# Altium footprint library SamacSys.PcbLib: 20 footprints (part 1 of 2)
Each footprint in its own frame and in the unit in brackets; x right, y up, seen from the top. Pads: shape width x height; smd on the part's side, far side on the other; paste and mask are expansions set on the pad; w line width, h text height; cw(c..) or ccw(c..) is an arc to the next point about the centre after c.
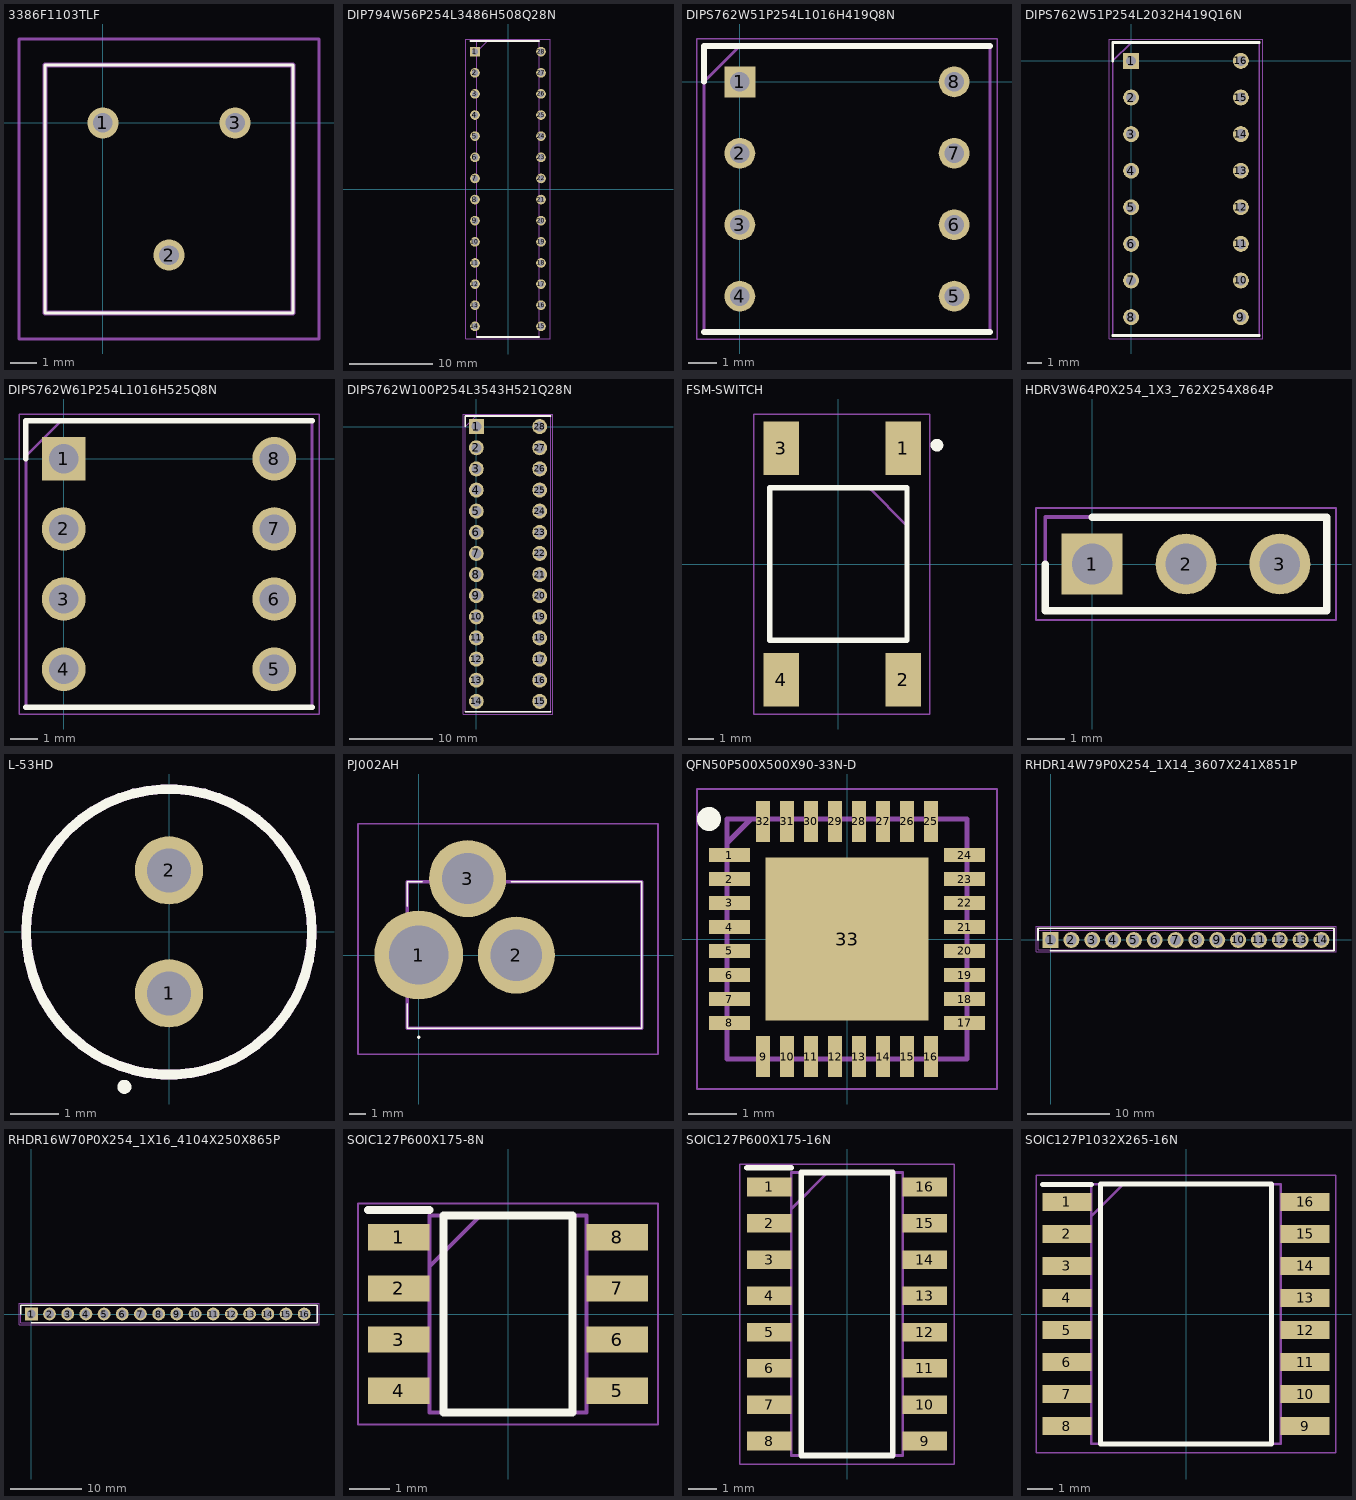
[diagram p0: the footprints below, top view; thin cyan lines are the x and y axes]

## 3386F1103TLF [mm]
pads (3):
  round 1.2 hole 0.75: 1(0,0) 2(2.54,-5.08) 3(5.08,0)
Top Overlay:
  lines w0.1: -2.225,-7.305 7.305,-7.305 7.305,2.225 -2.225,2.225 -2.225,-7.305
Mechanical 13:
  lines w0.2: -2.225,-7.305 7.305,-7.305 7.305,2.225 -2.225,2.225 -2.225,-7.305
Mechanical 15:
  lines w0.1: -3.225,-8.305 8.305,-8.305 8.305,3.225 -3.225,3.225 -3.225,-8.305
3D body "3386F-1-103TLF.stp": height 4.93, standoff -5, extent -2.225,-7.305 7.305,2.225

## DIP794W56P254L3486H508Q28N [mm]
pads (28):
  rect 1.159x1.159 hole 0.759: 1(-3.969,16.51)
  round 1.159 hole 0.759: 2(-3.969,13.97) 3(-3.969,11.43) 4(-3.969,8.89) 5(-3.969,6.35) 6(-3.969,3.81) 7(-3.969,1.27) 8(-3.969,-1.27) 9(-3.969,-3.81) 10(-3.969,-6.35) 11(-3.969,-8.89) 12(-3.969,-11.43) 13(-3.969,-13.97) 14(-3.969,-16.51) 15(3.969,-16.51) 16(3.969,-13.97) 17(3.969,-11.43) 18(3.969,-8.89) 19(3.969,-6.35) 20(3.969,-3.81) 21(3.969,-1.27) 22(3.969,1.27) 23(3.969,3.81) 24(3.969,6.35) 25(3.969,8.89) 26(3.969,11.43) 27(3.969,13.97) 28(3.969,16.51)
Top Overlay:
  lines w0.2: -4.548,17.78 3.746,17.78 ; -3.746,-17.78 3.746,-17.78
Mechanical 13:
  lines w0.1: -3.746,16.51 -2.476,17.78 ; -3.746,-17.78 -3.746,17.78 3.746,17.78 3.746,-17.78 -3.746,-17.78
Mechanical 15:
  lines w0.05: -5.084,-18.03 -5.084,18.03 5.084,18.03 5.084,-18.03 -5.084,-18.03
3D body "PIC16F1518-I_SP.stp": height 5.08, standoff -3.5, extent -4.109,-17.431 4.109,17.431

## DIPS762W51P254L1016H419Q8N [mm]
pads (8):
  rect 1.1x1.1 hole 0.7: 1(0,0)
  round 1.1 hole 0.7: 2(0,-2.54) 3(0,-5.08) 4(0,-7.62) 5(7.62,-7.62) 6(7.62,-5.08) 7(7.62,-2.54) 8(7.62,0)
Top Overlay:
  lines w0.2: -1.27,-8.89 8.89,-8.89 ; -1.27,0 -1.27,1.27 8.89,1.27
Mechanical 13:
  lines w0.1: -1.27,0 0,1.27 ; -1.27,-8.89 8.89,-8.89 8.89,1.27 -1.27,1.27 -1.27,-8.89
Mechanical 15:
  lines w0.05: -1.52,-9.14 9.14,-9.14 9.14,1.52 -1.52,1.52 -1.52,-9.14

## DIPS762W51P254L2032H419Q16N [mm]
pads (16):
  rect 1.1x1.1 hole 0.7: 1(0,0)
  round 1.1 hole 0.7: 2(0,-2.54) 3(0,-5.08) 4(0,-7.62) 5(0,-10.16) 6(0,-12.7) 7(0,-15.24) 8(0,-17.78) 9(7.62,-17.78) 10(7.62,-15.24) 11(7.62,-12.7) 12(7.62,-10.16) 13(7.62,-7.62) 14(7.62,-5.08) 15(7.62,-2.54) 16(7.62,0)
Top Overlay:
  lines w0.2: -1.27,-19.05 8.89,-19.05 ; -1.27,0 -1.27,1.27 8.89,1.27
Mechanical 13:
  lines w0.1: -1.27,0 0,1.27 ; -1.27,-19.05 -1.27,1.27 8.89,1.27 8.89,-19.05 -1.27,-19.05
Mechanical 15:
  lines w0.05: -1.52,-19.3 -1.52,1.52 9.14,1.52 9.14,-19.3 -1.52,-19.3

## DIPS762W61P254L1016H525Q8N [mm]
pads (8):
  rect 1.575x1.575 hole 1.05: 1(0,0)
  round 1.575 hole 1.05: 2(0,-2.54) 3(0,-5.08) 4(0,-7.62) 5(7.62,-7.62) 6(7.62,-5.08) 7(7.62,-2.54) 8(7.62,0)
Top Overlay:
  lines w0.2: -1.37,-8.99 8.99,-8.99 ; -1.37,0 -1.37,1.37 8.99,1.37
Mechanical 13:
  lines w0.1: -1.37,0.1 -0.1,1.37 ; -1.37,-8.99 8.99,-8.99 8.99,1.37 -1.37,1.37 -1.37,-8.99
Mechanical 15:
  lines w0.05: -1.62,-9.24 9.24,-9.24 9.24,1.62 -1.62,1.62 -1.62,-9.24
3D body "A_08-LC-TT.stp": height 5.08, standoff -5.08, extent -0.315,-8.89 7.935,1.27

## DIPS762W100P254L3543H521Q28N [mm]
pads (28):
  rect 1.8x1.8 hole 1.2: 1(0,0)
  round 1.8 hole 1.2: 2(0,-2.54) 3(0,-5.08) 4(0,-7.62) 5(0,-10.16) 6(0,-12.7) 7(0,-15.24) 8(0,-17.78) 9(0,-20.32) 10(0,-22.86) 11(0,-25.4) 12(0,-27.94) 13(0,-30.48) 14(0,-33.02) 15(7.62,-33.02) 16(7.62,-30.48) 17(7.62,-27.94) 18(7.62,-25.4) 19(7.62,-22.86) 20(7.62,-20.32) 21(7.62,-17.78) 22(7.62,-15.24) 23(7.62,-12.7) 24(7.62,-10.16) 25(7.62,-7.62) 26(7.62,-5.08) 27(7.62,-2.54) 28(7.62,0)
Top Overlay:
  lines w0.2: -1.334,-34.288 8.954,-34.288 ; -1.334,0 -1.334,1.268 8.954,1.268
Mechanical 13:
  lines w0.1: -1.334,-0.002 -0.064,1.268 ; -1.334,-34.289 8.953,-34.289 8.953,1.268 -1.334,1.268 -1.334,-34.289
Mechanical 15:
  lines w0.05: -1.584,-34.539 9.203,-34.539 9.203,1.518 -1.584,1.518 -1.584,-34.539

## FSM-SWITCH [mm]
pads (4):
  rect 1.4x2.1 smd: 1(2.55,4.55) 2(2.55,-4.55) 3(-2.25,4.55) 4(-2.25,-4.55)
Top Overlay:
  circle w0.25: c3.875,4.675 r0.125
  lines w0.2: -2.7,-3 -2.7,3 2.7,3 2.7,-3 -2.7,-3
Mechanical 13:
  lines w0.1: 1.275,2.925 2.625,1.575 ; -2.7,-3 -2.7,3 2.7,3 2.7,-3 -2.7,-3
Mechanical 15:
  lines w0.05: -3.325,-5.9 -3.325,5.9 3.6,5.9 3.6,-5.9 -3.325,-5.9
3D body "4-1437565-1.stp": height 1.4, standoff -3.67, extent -3,-5 3,5

## HDRV3W64P0X254_1X3_762X254X864P [mm]
pads (3):
  rect 1.65x1.65 hole 1.1: 1(0,0)
  round 1.65 hole 1.1: 2(2.54,0) 3(5.08,0)
Top Overlay:
  lines w0.2: -1.27,0 -1.27,-1.27 6.35,-1.27 6.35,1.27 0,1.27
Mechanical 13:
  lines w0.1: -1.27,-1.27 -1.27,1.27 6.35,1.27 6.35,-1.27 -1.27,-1.27
Mechanical 15:
  lines w0.05: -1.52,-1.52 -1.52,1.52 6.6,1.52 6.6,-1.52 -1.52,-1.52
3D body "M20-9990346.stp": height 8.64, standoff -3, extent -1.27,-1.27 6.35,1.27

## L-53HD [mm]
pads (2):
  round 1.41 hole 0.91: 1(0,-1.27) 2(0,1.27)
Top Overlay:
  circle w0.2: c0,0 r2.95
  circle w0.2: c-0.922,-3.201 r0.045
Mechanical 13:
  circle w0.2: c0,0 r2.95

## PJ002AH [mm]
pads (3):
  round 5.46 hole 3.64: 1(0,0)
  round 4.74 hole 3.16: 2(6,0) 3(3,4.7)
Top Overlay:
  lines w0.1: -0.7,-3 -0.7,-4.5 13.7,-4.5 13.7,4.5 5.7,4.5 ; -0.7,3 -0.7,4.5 0.2,4.5 ; 0,-5.1 cw(c0,-5.05) 0,-5 cw(c0,-5.05) 0,-5.1
Mechanical 13:
  lines w0.2: -0.7,-4.5 13.7,-4.5 13.7,4.5 -0.7,4.5 -0.7,-4.5
Mechanical 15:
  lines w0.1: -3.73,-6.1 14.7,-6.1 14.7,8.07 -3.73,8.07 -3.73,-6.1
3D body "PJ-002AH.stp": height 11.1, standoff -5, extent -1.72,-4.5 13.7,6.177

## QFN50P500X500X90-33N-D [mm]
pads (33):
  rect 0.85x0.3 smd: 1(-2.45,1.75) 2(-2.45,1.25) 3(-2.45,0.75) 4(-2.45,0.25) 5(-2.45,-0.25) 6(-2.45,-0.75) 7(-2.45,-1.25) 8(-2.45,-1.75) 17(2.45,-1.75) 18(2.45,-1.25) 19(2.45,-0.75) 20(2.45,-0.25) 21(2.45,0.25) 22(2.45,0.75) 23(2.45,1.25) 24(2.45,1.75)
  rect 0.3x0.85 smd: 9(-1.75,-2.45) 10(-1.25,-2.45) 11(-0.75,-2.45) 12(-0.25,-2.45) 13(0.25,-2.45) 14(0.75,-2.45) 15(1.25,-2.45) 16(1.75,-2.45) 25(1.75,2.45) 26(1.25,2.45) 27(0.75,2.45) 28(0.25,2.45) 29(-0.25,2.45) 30(-0.75,2.45) 31(-1.25,2.45) 32(-1.75,2.45)
  rect 3.4x3.4 smd: 33(0,0)
Top Overlay:
  circle w0.25: c-2.875,2.5 r0.125
Mechanical 13:
  lines w0.1: -2.5,2 -2,2.5 ; -2.5,-2.5 2.5,-2.5 2.5,2.5 -2.5,2.5 -2.5,-2.5
Mechanical 15:
  lines w0.05: -3.125,-3.125 3.125,-3.125 3.125,3.125 -3.125,3.125 -3.125,-3.125
3D body "FT232RQ-TRAY.stp": height 0.9, standoff 0, extent -2.55,-2.55 2.55,2.55

## RHDR14W79P0X254_1X14_3607X241X851P [mm]
pads (14):
  rect 1.95x1.95 hole 1.3: 1(0,0)
  round 1.95 hole 1.3: 2(2.54,0) 3(5.08,0) 4(7.62,0) 5(10.16,0) 6(12.7,0) 7(15.24,0) 8(17.78,0) 9(20.32,0) 10(22.86,0) 11(25.4,0) 12(27.94,0) 13(30.48,0) 14(33.02,0)
Top Overlay:
  lines w0.2: -1.525,0 -1.525,1.445 34.545,1.445 34.545,-1.325 0,-1.325
Mechanical 13:
  lines w0.1: -1.525,-1.205 -1.525,1.205 34.545,1.205 34.545,-1.205 -1.525,-1.205
Mechanical 15:
  lines w0.05: -1.775,-1.455 -1.775,1.695 34.795,1.695 34.795,-1.455 -1.775,-1.455
3D body "SSW-114-01-G-S.stp": height 8.51, standoff -2.64, extent -1.525,-1.205 34.545,1.205

## RHDR16W70P0X254_1X16_4104X250X865P [mm]
pads (16):
  rect 1.8x1.8 hole 1.2: 1(0,0)
  round 1.8 hole 1.2: 2(2.54,0) 3(5.08,0) 4(7.62,0) 5(10.16,0) 6(12.7,0) 7(15.24,0) 8(17.78,0) 9(20.32,0) 10(22.86,0) 11(25.4,0) 12(27.94,0) 13(30.48,0) 14(33.02,0) 15(35.56,0) 16(38.1,0)
Top Overlay:
  lines w0.2: -1.47,0 -1.47,1.25 39.92,1.25 39.92,-1.25 0,-1.25
Mechanical 13:
  lines w0.1: -1.47,-1.25 39.92,-1.25 39.92,1.25 -1.47,1.25 -1.47,-1.25
Mechanical 15:
  lines w0.05: -1.72,-1.5 40.17,-1.5 40.17,1.5 -1.72,1.5 -1.72,-1.5
3D body "M20-7821642.stp": height 8.65, standoff -3.25, extent -1.47,-1.25 39.57,1.25

## SOIC127P600X175-8N [mm]
pads (8):
  rect 1.525x0.65 smd: 1(-2.712,1.905) 2(-2.712,0.635) 3(-2.712,-0.635) 4(-2.712,-1.905) 5(2.712,-1.905) 6(2.712,-0.635) 7(2.712,0.635) 8(2.712,1.905)
Top Overlay:
  lines w0.2: -3.475,2.58 -1.95,2.58 ; -1.6,-2.45 1.6,-2.45 1.6,2.45 -1.6,2.45 -1.6,-2.45
Mechanical 13:
  lines w0.1: -1.95,1.18 -0.68,2.45 ; -1.95,-2.45 1.95,-2.45 1.95,2.45 -1.95,2.45 -1.95,-2.45
Mechanical 15:
  lines w0.05: -3.725,-2.75 3.725,-2.75 3.725,2.75 -3.725,2.75 -3.725,-2.75
3D body "NE555DR.stp": height 1.75, standoff 0, extent -3,-2.45 3,2.45

## SOIC127P600X175-16N [mm]
pads (16):
  rect 1.55x0.65 smd: 1(-2.725,4.445) 2(-2.725,3.175) 3(-2.725,1.905) 4(-2.725,0.635) 5(-2.725,-0.635) 6(-2.725,-1.905) 7(-2.725,-3.175) 8(-2.725,-4.445) 9(2.725,-4.445) 10(2.725,-3.175) 11(2.725,-1.905) 12(2.725,-0.635) 13(2.725,0.635) 14(2.725,1.905) 15(2.725,3.175) 16(2.725,4.445)
Top Overlay:
  lines w0.2: -3.5,5.12 -1.95,5.12 ; -1.6,-4.95 -1.6,4.95 1.6,4.95 1.6,-4.95 -1.6,-4.95
Mechanical 13:
  lines w0.1: -1.95,3.68 -0.68,4.95 ; -1.95,-4.95 -1.95,4.95 1.95,4.95 1.95,-4.95 -1.95,-4.95
Mechanical 15:
  lines w0.05: -3.75,-5.25 -3.75,5.25 3.75,5.25 3.75,-5.25 -3.75,-5.25
3D body "MC14053BDG.stp": height 1.75, standoff 0, extent -3,-4.95 3,4.95

## SOIC127P1032X265-16N [mm]
pads (16):
  rect 1.95x0.7 smd: 1(-4.725,4.445) 2(-4.725,3.175) 3(-4.725,1.905) 4(-4.725,0.635) 5(-4.725,-0.635) 6(-4.725,-1.905) 7(-4.725,-3.175) 8(-4.725,-4.445) 9(4.725,-4.445) 10(4.725,-3.175) 11(4.725,-1.905) 12(4.725,-0.635) 13(4.725,0.635) 14(4.725,1.905) 15(4.725,3.175) 16(4.725,4.445)
Top Overlay:
  lines w0.2: -5.7,5.145 -3.75,5.145 ; -3.4,-5.15 -3.4,5.15 3.4,5.15 3.4,-5.15 -3.4,-5.15
Mechanical 13:
  lines w0.1: -3.75,3.88 -2.48,5.15 ; -3.75,-5.15 -3.75,5.15 3.75,5.15 3.75,-5.15 -3.75,-5.15
Mechanical 15:
  lines w0.05: -5.95,-5.5 -5.95,5.5 5.95,5.5 5.95,-5.5 -5.95,-5.5
3D body "PCF8574AT_3,512.stp": height 2.65, standoff 0, extent -5.162,-5.15 5.162,5.15